# Altium integrated library IRLB8721PBF.IntLib: 1 symbol
Pins are listed as number, name and electrical type; pins without a type are passive.

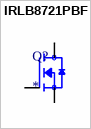
[diagram p0: symbol IRLB8721PBF]

## IRLB8721PBF
designator Q?
IRLB8721PBF N-channel MOSFET Transistor, 62 A, 30 V, 3-Pin TO-220AB | Infineon IRLB8721PBF; MF: Infineon Technologies; SnapEDA_Link: https://www.snapeda.com/parts/IRLB8721PBF/Infineon/view-part/?ref=snap; Package: TO-220-3 Infineon; Value: *; MP: IRLB8721PBF; Check_prices: https://www.snapeda.com/parts/IRLB8721PBF/Infineon/view-part/?ref=eda
footprint TO254P1067X483X2057-3
pins: 1 G, 2 D, 3 S